# Altium schematic symbol library node.SchLib: 51 symbols (part 2 of 2)
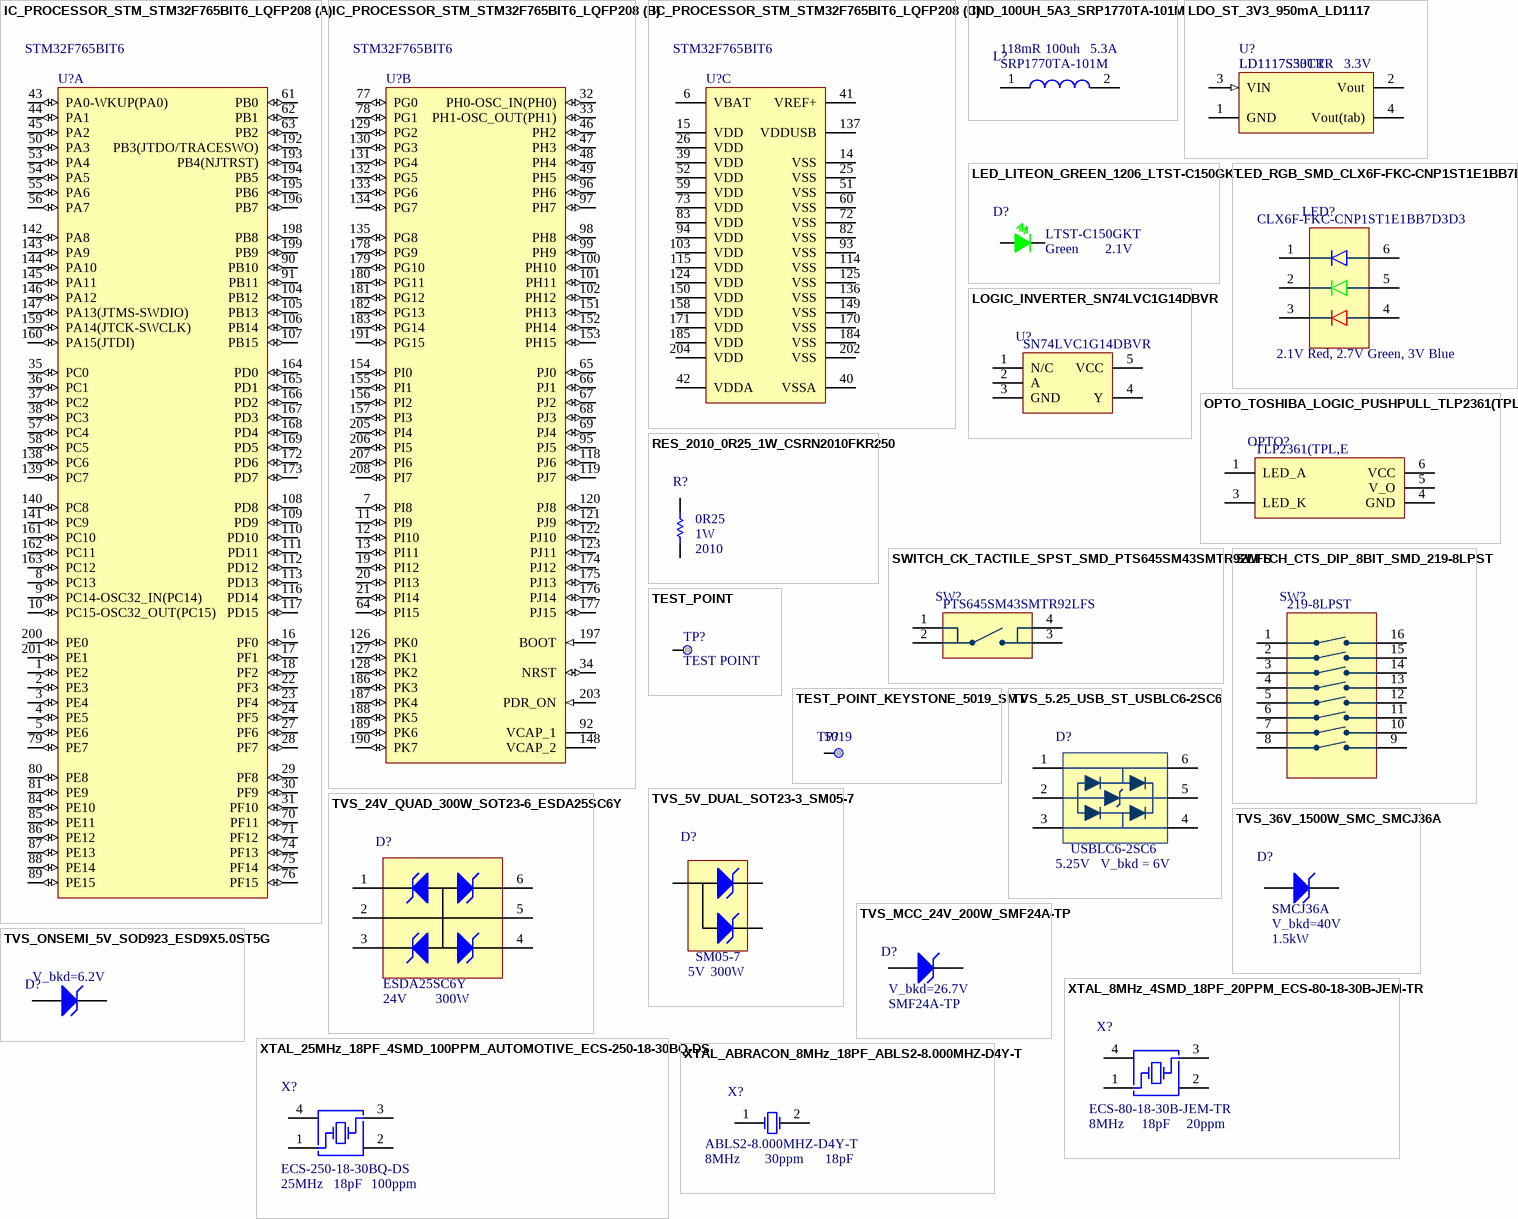
[diagram p2: symbols IC_PROCESSOR_STM_STM32F765BIT6_LQFP208 to XTAL_ABRACON_8MHz_18PF_ABLS2-8.000MHZ-D4Y-T]

## LED_LITEON_GREEN_1206_LTST-C150GKT
designator D?  Forward Voltage: 2.1V  Illumination Colour: Green  Manufacturer Part Number: LTST-C150GKT  (hidden comment: *)
LED GREEN CLEAR 1206 SMD; Manufacturer: Vishay Lite-On; Lens Colour: Clear,Colorless; Max Power Dissipation: 100mW; Luminous Intensity: 6mcd; Forward Current: 30mA; Viewing Angle: 130°; Lens Style: Clear,Diffused,Colorless,Rectangular; Dominant Wavelength: 569nm; Test Current: 10mA; Number of Elements: 1; Wavelength: 565nm; Reverse Voltage: 5V; Supplier 1: Digi-Key; Stock 1: 0; Mount: Surface Mount; Case/Package: 1206; Number of Pins: 2; Colour: Green; Case Code (Metric): 3216; Case Code (Imperial): 1206; Min Operating Temperature: -55°C; Max Operating Temperature: 85°C; Packaging: Tape and Reel; Package Quantity: 1; Power Rating: 100mW; Lens Transparency: Clear; Power Dissipation: 100mW; Number of LEDs: 1; Length: 3.2mm; Height: 1.1mm; Width: 1.6mm; Depth: 1.6mm; Radiation Hardening: No; Lead Free: Lead Free; ComponentLink1URL: https://datasheet.ciiva.com/2110/ltst-c150gkt-2110032.pdf; ComponentLink1Description: https://datasheet.ciiva.com/2110/ltst-c150gkt-2110032.pdf; ComponentLink2URL: https://datasheet.ciiva.com/12400/lite-on-ltst-c150gkt-187412-12400912.pdf; ComponentLink2Description: https://datasheet.ciiva.com/12400/lite-on-ltst-c150gkt-187412-12400912.pdf; ComponentLink3URL: https://datasheet.ciiva.com/11775/0900766b80dc0263-11775637.pdf; ComponentLink3Description: https://datasheet.ciiva.com/11775/0900766b80dc0263-11775637.pdf; ComponentLink4URL: https://datasheet.ciiva.com/4266/s-110-ltst-c150gkt-4266310.pdf; ComponentLink4Description: https://datasheet.ciiva.com/4266/s-110-ltst-c150gkt-4266310.pdf; ComponentLink5URL: https://datasheet.ciiva.com/16375/ltst-c150gkt-16375926.pdf; ComponentLink5Description: https://datasheet.ciiva.com/16375/ltst-c150gkt-16375926.pdf; ComponentLink6URL: https://datasheet.ciiva.com/15117/getdatasheetpartid-142080-15117739.pdf; ComponentLink6Description: https://datasheet.ciiva.com/15117/getdatasheetpartid-142080-15117739.pdf; Supplier Part Number 1: 160-1169-6-ND
footprint LED_1206 (Chip Capacitor, Body 3.2x1.6mm, Height 1mm, IPC Medium Density)
pins: 1, 2

## LED_RGB_SMD_CLX6F-FKC-CNP1ST1E1BB7D3D3
designator LED?  Forward Voltage: 2.1V Red, 2.7V Green, 3V Blue  Manufacturer Part Number: CLX6F-FKC-CNP1ST1E1BB7D3D3  (hidden comment: *)
LED RGB IPX8 6PLCC 3.5X3.4X2.8MM; Manufacturer: Cree; Supplier 1: Digi-Key; Stock 1: 4910; Pricing 1: 1=0.32, 10=0.301, 100=0.278, 1000=0.24861 (USD); ComponentLink1URL: http://www.mouser.com/ds/2/90/CLX6F-FKC-1352-1064258.pdf; ComponentLink1Description: http://www.mouser.com/ds/2/90/CLX6F-FKC-1352-1064258.pdf; ComponentLink2URL: http://www.cree.com/led-components/media/documents/CLX6F-FKC-1352.pdf; ComponentLink2Description: http://www.cree.com/led-components/media/documents/CLX6F-FKC-1352.pdf; Supplier Part Number 1: CLX6F-FKC-CNP1ST1E1BB7D3D3DKR-ND
footprint LED_6PLCC_RGB (Leaded Chip Carrier, 8-Leads, Body 3.55x3.50mm, Pitch 1.000mm, IPC Medium Density)
pins: 1, 2, 3, 4, 5, 6

## LOGIC_INVERTER_SN74LVC1G14DBVR
designator U?  Manufacturer Part Number: SN74LVC1G14DBVR  (hidden comment: *)
IC SCHMITT TRIG INV SOT-23-5; Manufacturer: Texas Instruments; Propagation Delay: 11ns; Max Supply Voltage: 5.5V; Min Supply Voltage: 1.65V; Output Current: 32mA; Number of Inputs: 1; Logic Function: Schmitt Trigger,Buffer,Inverter; Quiescent Current: 10uA; High Level Output Current: -32mA; Supplier 1: Digi-Key; Stock 1: 173974; Pricing 1: 1=0.43, 10=0.32, 100=0.1996, 500=0.13658, 1000=0.10506 (USD); Mount: Surface Mount; Case/Package: SOT-23; Number of Pins: 5; Weight: 0.000557oz; Contact Plating: Tin,Matte; Min Operating Temperature: -40°C; Max Operating Temperature: 125°C; Packaging: Tape and Reel; Max Output Current: 32mA; Package Quantity: 3000; Number of Elements: 1; Number of Circuits: 1; Low Level Output Current: 32mA; Turn-On Delay Time: 11ns; Termination: SMD/SMT; Number of Gates: 1; Number of Bits: 1; Radiation Hardening: No; REACH SVHC: No SVHC; Lead Free: Lead Free; ComponentLink1URL: https://datasheet.ciiva.com/28540/1772446-28540802.pdf; ComponentLink1Description: https://datasheet.ciiva.com/28540/1772446-28540802.pdf; ComponentLink2URL: https://datasheet.ciiva.com/4219/1096sn74lvc1g14-4219459.pdf; ComponentLink2Description: https://datasheet.ciiva.com/4219/1096sn74lvc1g14-4219459.pdf; ComponentLink3URL: https://datasheet.ciiva.com/1864/sn74lvc1g14-1864164.pdf; ComponentLink3Description: https://datasheet.ciiva.com/1864/sn74lvc1g14-1864164.pdf; ComponentLink4URL: https://datasheet.ciiva.com/1864/sn74lvc1g14-1864165.pdf; ComponentLink4Description: https://datasheet.ciiva.com/1864/sn74lvc1g14-1864165.pdf; ComponentLink5URL: https://datasheet.ciiva.com/1864/sn74lvc1g14-1864166.pdf; ComponentLink5Description: https://datasheet.ciiva.com/1864/sn74lvc1g14-1864166.pdf; ComponentLink6URL: https://datasheet.ciiva.com/34301/1044161-34301915.pdf; ComponentLink6Description: https://datasheet.ciiva.com/34301/1044161-34301915.pdf; ComponentLink7URL: https://datasheet.ciiva.com/15089/getdatasheetpartid-204107-15089388.pdf; ComponentLink7Description: https://datasheet.ciiva.com/15089/getdatasheetpartid-204107-15089388.pdf; ComponentLink8URL: https://datasheet.ciiva.com/7783/1768049-7783597.pdf; ComponentLink8Description: https://datasheet.ciiva.com/7783/1768049-7783597.pdf; ComponentLink9URL: https://datasheet.ciiva.com/14290/sn74lvc1g14-14290317.pdf; ComponentLink9Description: https://datasheet.ciiva.com/14290/sn74lvc1g14-14290317.pdf; ComponentLink10URL: https://datasheet.ciiva.com/16502/sn74lvc1g14-16502797.pdf; ComponentLink10Description: https://datasheet.ciiva.com/16502/sn74lvc1g14-16502797.pdf; ComponentLink11URL: https://datasheet.ciiva.com/26042/sn74lvc1g14-26042397.pdf; ComponentLink11Description: https://datasheet.ciiva.com/26042/sn74lvc1g14-26042397.pdf; ComponentLink12URL: https://datasheet.ciiva.com/7783/1768049-7783598.pdf; ComponentLink12Description: https://datasheet.ciiva.com/7783/1768049-7783598.pdf; ComponentLink13URL: https://datasheet.ciiva.com/48703/001074513-da-01-en-ic-schmitt-sn74lvc1g14dbvr-sot-23-5-tid-48703804.pdf; ComponentLink13Description: https://datasheet.ciiva.com/48703/001074513-da-01-en-ic-schmitt-sn74lvc1g14dbvr-sot-23-5-tid-48703804.pdf; Supplier Part Number 1: 296-11607-6-ND
footprint SOT-23-5L (Enhanced single channel power switches)
pins: 1 N/C, 2 A, 3 GND, 4 Y, 5 VCC

## OPTO_TOSHIBA_LOGIC_PUSHPULL_TLP2361(TPL,E
designator OPTO?  Manufacturer Part Number: TLP2361(TPL,E  (hidden comment: *)
Optocoupler Logic-Out Totem-Pole DC-IN 1-CH 5-Pin SO T/R; Manufacturer: Toshiba; Direction: Unidirectional; Max Power Dissipation: 20mW; Propagation Delay: 80ns; Number of Channels: 1; Output Current per Channel: 10mA; Fall Time: 0.003us; Forward Voltage: 1.5V; Supplier 1: Digi-Key; Stock 1: 59139; Pricing 1: 1=1.21, 10=0.983, 25=0.7564, 100=0.6806, 250=0.605, 500=0.51426, 1000=0.4235 (USD); Mount: Surface Mount; Case/Package: SO; Min Operating Temperature: -40°C; Max Operating Temperature: 125°C; Packaging: Tape and Reel; Turn-On Delay Time: 80ns; Radiation Hardening: No; ComponentLink1URL: https://toshiba.semicon-storage.com/info/docget.jsp?did=14229&prodName=TLP2361; ComponentLink1Description: https://toshiba.semicon-storage.com/info/docget.jsp?did=14229&prodName=TLP2361; ComponentLink2URL: http://www.semicon.toshiba.co.jp/info/lookup.jsp?pid=TLP2361&amp;lang=en; ComponentLink2Description: http://www.semicon.toshiba.co.jp/info/lookup.jsp?pid=TLP2361&amp;lang=en; ComponentLink3URL: http://www.semicon.toshiba.co.jp/info/docget.jsp?pid=TLP2361&lang=en&type=datasheet; ComponentLink3Description: http://www.semicon.toshiba.co.jp/info/docget.jsp?pid=TLP2361&lang=en&type=datasheet; Supplier Part Number 1: TLP2361(TPLECT-ND
footprint SO-5
pins: 1 LED_A, 3 LED_K, 4 GND, 5 V_O, 6 VCC

## RES_2010_0R25_1W_CSRN2010FKR250
designator R?  Case Code (Imperial): 2010  Resistance: 0R25  Power Rating: 1W  (hidden comment: *)
Res Thick Film 2010 0.25 Ohm 1% 1W ±250ppm/C Molded SMD Plastic T/R; Manufacturer: Stackpole Electronics; Manufacturer Part Number: CSRN2010FKR250; Temperature Coefficient: 250ppm/°C; Supplier 1: Digi-Key; Stock 1: 10883; Pricing 1: 1=0.65, 10=0.462, 25=0.3604, 50=0.305, 100=0.2402, 250=0.20328, 500=0.16632 (USD); Mount: Surface Mount; Case/Package: 2010; Case Code (Metric): 5025; Contact Plating: Tin,Matte; Min Operating Temperature: -55°C; Max Operating Temperature: 155°C; Packaging: Tape and Reel; Tolerance: 1%; Composition: Thick Film; Number of Terminations: 2; Military Standard: Not; Max Power Dissipation: 1W; Length: 0.197inch; Height: 0.03inch; Width: 0.097inch; Depth: 2.54mm; Radiation Hardening: No; Lead Free: Lead Free; ComponentLink1URL: https://datasheet.ciiva.com/26835/getdatasheetpartid-747701-26835495.pdf; ComponentLink1Description: https://datasheet.ciiva.com/26835/getdatasheetpartid-747701-26835495.pdf; Supplier Part Number 1: CSRN2010FKR250DKR-ND
footprint RES2010N (Chip Resistor, 2-Leads, Body 5.00x2.54mm, IPC Medium Density)
pins: 1, 2

## SWITCH_CK_TACTILE_SPST_SMD_PTS645SM43SMTR92LFS
designator SW?  Manufacturer Part Number: PTS645SM43SMTR92LFS  (hidden comment: *)
SWITCH TACTILE SPST-NO 0.05A 12V; Manufacturer: ITT C&K; Mechanical Life: 100000Cycles; Actuator Material: Nylon,Polyamide; Throw Configuration: SPST; Contact Resistance: 100mR; Operating Force: 160gf; Max Current Rating: 50mA; Illumination Type: Non-Illuminated,Illuminated; Switch Function: Off-Mom; Actuator Length: 0.85mm; Supplier 1: Digi-Key; Stock 1: 313002; Pricing 1: 1=0.16, 10=0.157, 25=0.1516, 50=0.1462, 100=0.1381, 250=0.12996, 500=0.12452 (USD); Mount: Surface Mount; Case/Package: SMD/SMT; Contact Plating: Silver; Contact Material: Silver; Colour: Black; Min Operating Temperature: -20°C; Max Operating Temperature: 60°C; Max Voltage Rating (DC): 12V; Packaging: Tape and Reel; Package Quantity: 1000; Current Rating: 50mA; Voltage Rating (DC): 12V; Termination: Gull Wing; Orientation: Straight; Length: 6mm; Depth: 9mm; REACH SVHC: No SVHC; Lead Free: Lead Free; ComponentLink1URL: https://datasheet.ciiva.com/29903/getdatasheetpartid-786341-29903846.pdf; ComponentLink1Description: https://datasheet.ciiva.com/29903/getdatasheetpartid-786341-29903846.pdf; ComponentLink2URL: https://datasheet.ciiva.com/14920/pts645-14920733.pdf; ComponentLink2Description: https://datasheet.ciiva.com/14920/pts645-14920733.pdf; ComponentLink3URL: https://datasheet.ciiva.com/14920/pts645-14920734.pdf; ComponentLink3Description: https://datasheet.ciiva.com/14920/pts645-14920734.pdf; ComponentLink4URL: https://datasheet.ciiva.com/14920/pts645-14920735.pdf; ComponentLink4Description: https://datasheet.ciiva.com/14920/pts645-14920735.pdf; ComponentLink5URL: https://datasheet.ciiva.com/29931/getdatasheetpartid-764615-29931183.pdf; ComponentLink5Description: https://datasheet.ciiva.com/29931/getdatasheetpartid-764615-29931183.pdf; Supplier Part Number 1: CKN9112DKR-ND
footprint SWITCH_CK_TACT_PTS645SM43SMTR92 (Surface Mounting Type Tact Switch, 4-Leads, Body 6x6mm, Height 4.5mm,Blue)
pins: 1, 2, 3, 4

## SWITCH_CTS_DIP_8BIT_SMD_219-8LPST
designator SW?  Manufacturer Part Number: 219-8LPST  (hidden comment: *)
Switch DIP ON OFF SPST 8 Flush Slide 0.1A 20VDC Gull Wing 2.54mm SMD Tube; Manufacturer: CTS; Mechanical Life: 2000Cycles; Max Voltage Rating (DC): 20V; Number of Positions: 8; Current Rating: 100mA; Contact Resistance: 25mR; Pitch: 0.1inch; Washable: Yes; Supplier 1: Digi-Key; Stock 1: 16001; Pricing 1: 1=1.05, 10=1.032, 25=0.9724, 50=0.9128, 100=0.8732, 250=0.83348, 500=0.75412, 1000=0.69458, 5000=0.56558 (USD); Mount: Surface Mount; Contact Plating: Tin,Gold; Contact Material: Copper; Min Operating Temperature: -55°C; Max Operating Temperature: 85°C; Throw Configuration: SPST; Termination: Gull Wing; Voltage Rating (DC): 20V; Life (Cycles): 2000Cycles; Packaging: Rail/Tube; Package Quantity: 25; Electrical Life: 2000Cycles; Max Current Rating: 100mA; Orientation: Straight; Length: 0.858inch; Height: 4.05mm; Terminal Pitch: 2.54mm; Depth: 9.91mm; Radiation Hardening: No; ComponentLink1URL: https://datasheet.ciiva.com/15184/getdatasheetpartid-151166-15184869.pdf; ComponentLink1Description: https://datasheet.ciiva.com/15184/getdatasheetpartid-151166-15184869.pdf; ComponentLink2URL: https://datasheet.ciiva.com/19471/859667-19471590.pdf; ComponentLink2Description: https://datasheet.ciiva.com/19471/859667-19471590.pdf; ComponentLink3URL: https://datasheet.ciiva.com/2863/219-2863549.pdf; ComponentLink3Description: https://datasheet.ciiva.com/2863/219-2863549.pdf; ComponentLink4URL: https://datasheet.ciiva.com/16316/219-16316175.pdf; ComponentLink4Description: https://datasheet.ciiva.com/16316/219-16316175.pdf; Supplier Part Number 1: CT2198LPST-ND
footprint SWITCH_DIP_CTS_8-BIT_219-8LPST
pins: 1, 2, 3, 4, 5, 6, 7, 8, 9, 10, 11, 12, 13, 14, 15, 16

## TEST_POINT
designator TP?, comment TEST POINT
footprint TP_1MM (Testpoint, Surface Mounting, Circular, Pad Diameter 1mm)
footprint TP_TH_2MM (Testpoint, Surface Mounting, Circular, Pad Diameter 1mm)
footprint TP_TH_1MM2 (Testpoint, Through-Hole, Hole Diameter 1.2MM)
pins: 1

## TEST_POINT_KEYSTONE_5019_SMT
designator TP?  Manufacturer Part Number: 5019  (hidden comment: *)
Circuit Board Hardware - PCB TEST POINT; Manufacturer: Keystone Electronics; Supplier 1: Digi-Key; Stock 1: 207442; Pricing 1: 1=0.38, 10=0.355, 25=0.3044, 50=0.2586, 100=0.2485, 250=0.22316, 500=0.21302 (USD); Mount: Surface Mount,PCB; Number of Pins: 1; Contact Plating: Silver; Material: Bronze; Contact Material: Bronze; Packaging: Tape and Reel; Package Quantity: 1; Termination: SMD/SMT; Height: 0.09inch; REACH SVHC: No SVHC; Lead Free: Lead Free; ComponentLink1URL: https://datasheet.ciiva.com/14848/m60-2p61-14848437.pdf; ComponentLink1Description: https://datasheet.ciiva.com/14848/m60-2p61-14848437.pdf; ComponentLink2URL: https://datasheet.ciiva.com/14848/m60-2p61-14848438.pdf; ComponentLink2Description: https://datasheet.ciiva.com/14848/m60-2p61-14848438.pdf; ComponentLink3URL: https://datasheet.ciiva.com/14848/m60-2p61-14848439.pdf; ComponentLink3Description: https://datasheet.ciiva.com/14848/m60-2p61-14848439.pdf; ComponentLink4URL: https://datasheet.ciiva.com/16885/70182998-16885945.pdf; ComponentLink4Description: https://datasheet.ciiva.com/16885/70182998-16885945.pdf; ComponentLink5URL: https://datasheet.ciiva.com/16318/m60-2p61-16318395.pdf; ComponentLink5Description: https://datasheet.ciiva.com/16318/m60-2p61-16318395.pdf; Supplier Part Number 1: 36-5019CT-ND
footprint TEST_POINT_KEYSTONE_5019
pins: 1

## TVS_5.25_USB_ST_USBLC6-2SC6
designator D?, comment Reverse Breakdown Voltage: V_bkd = 6V  Reverse Standoff Voltage: 5.25V  Manufacturer Part Number: USBLC6-2SC6  (hidden comment: TVS DIODE 5.25V 17V SOT23-6)
TVS DIODE 5.25VWM 17VC SOT23-6; Manufacturer: STMicroelectronics; Direction: Unidirectional,Bidirectional; Capacitance: 3.5pF; Operating Supply Voltage: 1.1V; Number of Channels: 2; Breakdown Voltage: 6V; Power Line Protection: Yes; Test Current: 1mA; Max Reverse Leakage Current: 150nA; Peak Pulse Current: 5A; Element Configuration: Dual; Data Rate: 480Mbps; Number of Elements: 1; Working Voltage: 5V; Supplier 1: Digi-Key; Stock 1: 63718; Pricing 1: 1=0.49, 10=0.419, 100=0.3131, 500=0.24602, 1000=0.1901 (USD); Mount: Surface Mount; Case/Package: SOT-23; Number of Pins: 6; Contact Plating: Tin,Matte; Min Operating Temperature: -40°C; Max Operating Temperature: 125°C; Clamping Voltage: 17V; Packaging: Tape and Reel; Package Quantity: 3000; Termination: SMD/SMT; Number of Bidirectional Channels: 2; Min Breakdown Voltage: 6V; ESD Protection: Yes; Leakage Current: 150nA; Polarity: Unidirectional,Bidirectional; Max Breakdown Voltage: 6V; Length: 3.05mm; Height: 1.3mm; Width: 1.75mm; Depth: 1.75mm; Radiation Hardening: No; REACH SVHC: No SVHC; Lead Free: Lead Free; ComponentLink1URL: https://datasheet.ciiva.com/1268/1690354-1268384.pdf; ComponentLink1Description: https://datasheet.ciiva.com/1268/1690354-1268384.pdf; ComponentLink2URL: https://datasheet.ciiva.com/4508/cd00050750-113117-4508433.pdf; ComponentLink2Description: https://datasheet.ciiva.com/4508/cd00050750-113117-4508433.pdf; ComponentLink3URL: https://datasheet.ciiva.com/16200/cd00050750-16200026.pdf; ComponentLink3Description: https://datasheet.ciiva.com/16200/cd00050750-16200026.pdf; ComponentLink4URL: https://datasheet.ciiva.com/15143/getdatasheetpartid-148465-15143789.pdf; ComponentLink4Description: https://datasheet.ciiva.com/15143/getdatasheetpartid-148465-15143789.pdf; ComponentLink5URL: https://datasheet.ciiva.com/26787/usblc6-2sc6-26787908.pdf; ComponentLink5Description: https://datasheet.ciiva.com/26787/usblc6-2sc6-26787908.pdf; ComponentLink6URL: https://datasheet.ciiva.com/41444/001184109-da-01-en-ic-esd-protecti-usblc6-2sc6-sot-23-6-stm-41444156.pdf; ComponentLink6Description: https://datasheet.ciiva.com/41444/001184109-da-01-en-ic-esd-protecti-usblc6-2sc6-sot-23-6-stm-41444156.pdf; Supplier Part Number 1: 497-5235-6-ND
footprint SOT23-6L
pins: 1, 2, 3, 4, 5, 6

## TVS_5V_DUAL_SOT23-3_SM05-7
designator D?  Manufacturer Part Number: SM05-7  Max Power Dissipation: 300W  Reverse Standoff Voltage: 5V  (hidden comment: *)
TVS DIODE 5VWM 20.6VC SOT23; Manufacturer: Diodes; Direction: Unidirectional,Bidirectional; Element Configuration: Common Anode; Capacitance: 230pF; Number of Unidirectional Channels: 2; Clamping Voltage: 20.6V; Power Line Protection: No; Polarity: Unidirectional; Breakdown Voltage: 7.3V; Leakage Current: 10uA; ESD Protection: Yes; Test Current: 1mA; Peak Pulse Current: 17A; Min Breakdown Voltage: 6.2V; Supplier 1: Digi-Key; Stock 1: 20844; Pricing 1: 1=0.46, 10=0.341, 100=0.1932, 500=0.12792, 1000=0.09808 (USD); Mount: Surface Mount; Case/Package: SOT-23; Number of Pins: 3; Contact Plating: Tin,Matte; Min Operating Temperature: -55°C; Max Operating Temperature: 150°C; Package Quantity: 3000; Packaging: Tape and Reel; Peak Pulse Power: 300W; Termination: SMD/SMT; Working Voltage: 5V; Max Reverse Leakage Current: 10uA; Length: 2.9mm; Height: 1mm; Width: 1.3mm; Depth: 1.3mm; Radiation Hardening: No; Lead Free: Lead Free; ComponentLink1URL: https://datasheet.ciiva.com/333/ds31828-333314.pdf; ComponentLink1Description: https://datasheet.ciiva.com/333/ds31828-333314.pdf; ComponentLink2URL: https://datasheet.ciiva.com/15186/getdatasheetpartid-375729-15186470.pdf; ComponentLink2Description: https://datasheet.ciiva.com/15186/getdatasheetpartid-375729-15186470.pdf; ComponentLink3URL: https://datasheet.ciiva.com/25956/ds31828-25956699.pdf; ComponentLink3Description: https://datasheet.ciiva.com/25956/ds31828-25956699.pdf; ComponentLink4URL: https://datasheet.ciiva.com/13083/ds31828-89171-13083151.pdf; ComponentLink4Description: https://datasheet.ciiva.com/13083/ds31828-89171-13083151.pdf; Supplier Part Number 1: SM05-7DIDKR-ND
footprint SOT-23
pins: 1 K1, 2 K2, 3 A

## TVS_24V_QUAD_300W_SOT23-6_ESDA25SC6Y
designator D?  Operating Supply Voltage: 24V  Peak Pulse Power: 300W  Manufacturer Part Number: ESDA25SC6Y  (hidden comment: *)
TVS DIODE 24VWM 30VC SOT23; Manufacturer: STMicroelectronics; Direction: Unidirectional; Capacitance: 60pF; Max Surge Current: 7A; Clamping Voltage: 30V; Number of Unidirectional Channels: 4; Min Breakdown Voltage: 25V; Power Line Protection: No; Leakage Current: 1uA; Peak Pulse Current: 10A; Supplier 1: Digi-Key; Stock 1: 18642; Pricing 1: 1=0.52, 10=0.419, 100=0.2855, 500=0.21414, 1000=0.16061 (USD); Mount: Surface Mount; Case/Package: SOT-23-6; Number of Pins: 6; Min Operating Temperature: -40°C; Max Operating Temperature: 150°C; Working Voltage: 24V; Packaging: Tape and Reel; Package Quantity: 1; Polarity: Unidirectional; Termination: SMD/SMT; Reverse Standoff Voltage: 24V; Length: 3mm; Height: 3mm; Depth: 1.75mm; Radiation Hardening: No; Lead Free: Lead Free; ComponentLink1URL: https://datasheet.ciiva.com/12326/dm00035423-211710-12326640.pdf; ComponentLink1Description: https://datasheet.ciiva.com/12326/dm00035423-211710-12326640.pdf; ComponentLink2URL: https://datasheet.ciiva.com/6577/dm00035423-6577883.pdf; ComponentLink2Description: https://datasheet.ciiva.com/6577/dm00035423-6577883.pdf; ComponentLink3URL: https://datasheet.ciiva.com/6577/dm00035423-6577884.pdf; ComponentLink3Description: https://datasheet.ciiva.com/6577/dm00035423-6577884.pdf; ComponentLink4URL: https://datasheet.ciiva.com/6577/dm00035423-6577885.pdf; ComponentLink4Description: https://datasheet.ciiva.com/6577/dm00035423-6577885.pdf; ComponentLink5URL: https://datasheet.ciiva.com/25958/dm00035423-25958158.pdf; ComponentLink5Description: https://datasheet.ciiva.com/25958/dm00035423-25958158.pdf; ComponentLink6URL: https://datasheet.ciiva.com/41443/001184002-da-01-en-tvs-diode-24v-300w-esda25sc6y-sot-23-stm-41443447.pdf; ComponentLink6Description: https://datasheet.ciiva.com/41443/001184002-da-01-en-tvs-diode-24v-300w-esda25sc6y-sot-23-stm-41443447.pdf; Supplier Part Number 1: 497-13421-6-ND; Breakdown Voltage: 25V
footprint SOT23-6L
pins: 1 K1, 2 A1, 3 K2, 4 K3, 5 A2, 6 K4

## TVS_36V_1500W_SMC_SMCJ36A
designator D?  Power Dissipation: 1.5kW  Manufacturer Part Number: SMCJ36A  Breakdown Voltage: V_bkd=40V  (hidden comment: *)
TVS DIODE 36VWM 58.1VC SMC; Manufacturer: Littelfuse; Direction: Unidirectional; Reverse Breakdown Voltage: 40V; Operating Supply Voltage: 36V; Max Surge Current: 25.9A; Number of Elements: 1; Clamping Voltage: 58.1V; Power Line Protection: No; Test Current: 1mA; Max Breakdown Voltage: 44.2V; Max Reverse Leakage Current: 1uA; Max Power Dissipation: 6.5W; Element Configuration: Single; Supplier 1: Digi-Key; Stock 1: 19790; Pricing 1: 1=0.61, 10=0.513, 25=0.4488, 100=0.3846, 250=0.33332, 500=0.28206, 1000=0.21795 (USD); Mount: Surface Mount; Case/Package: SMC; Number of Pins: 2; Min Operating Temperature: -65°C; Max Operating Temperature: 150°C; Package Quantity: 3000; Packaging: Tape and Reel; Number of Channels: 1; Polarity: Unidirectional; Peak Pulse Power: 1.5kW; Termination: SMD/SMT; Number of Unidirectional Channels: 1; Reverse Standoff Voltage: 36V; Min Breakdown Voltage: 40V; Peak Pulse Current: 25.9A; Leakage Current: 1uA; Voltage Rating (DC): 36V; Length: 7.11mm; Height: 2.417mm; Width: 6.22mm; Radiation Hardening: No; REACH SVHC: No SVHC; Lead Free: Lead Free; ComponentLink1URL: https://datasheet.ciiva.com/14162/smcj-eng-ds-14162005.pdf; ComponentLink1Description: https://datasheet.ciiva.com/14162/smcj-eng-ds-14162005.pdf; ComponentLink2URL: https://datasheet.ciiva.com/26943/getdatasheetpartid-214039-26943381.pdf; ComponentLink2Description: https://datasheet.ciiva.com/26943/getdatasheetpartid-214039-26943381.pdf; ComponentLink3URL: https://datasheet.ciiva.com/4510/littelfuse-tvs-diode-smcj-62645-4510614.pdf; ComponentLink3Description: https://datasheet.ciiva.com/4510/littelfuse-tvs-diode-smcj-62645-4510614.pdf; ComponentLink4URL: https://datasheet.ciiva.com/16487/littelfuse-tvs-diode-smcj-16487798.pdf; ComponentLink4Description: https://datasheet.ciiva.com/16487/littelfuse-tvs-diode-smcj-16487798.pdf; ComponentLink5URL: https://datasheet.ciiva.com/8062/littelfuse-tvs-diode-smcj-8062391.pdf; ComponentLink5Description: https://datasheet.ciiva.com/8062/littelfuse-tvs-diode-smcj-8062391.pdf; ComponentLink6URL: https://datasheet.ciiva.com/332/littelfuse-tvs-diode-smcj-datasheet-pdf-332153.pdf; ComponentLink6Description: https://datasheet.ciiva.com/332/littelfuse-tvs-diode-smcj-datasheet-pdf-332153.pdf; ComponentLink7URL: https://datasheet.ciiva.com/332/littelfuse-tvs-diode-smcj-datasheet-pdf-332154.pdf; ComponentLink7Description: https://datasheet.ciiva.com/332/littelfuse-tvs-diode-smcj-datasheet-pdf-332154.pdf; ComponentLink8URL: https://datasheet.ciiva.com/332/littelfuse-tvs-diode-smcj-datasheet-pdf-332155.pdf; ComponentLink8Description: https://datasheet.ciiva.com/332/littelfuse-tvs-diode-smcj-datasheet-pdf-332155.pdf; ComponentLink9URL: https://datasheet.ciiva.com/46385/607636-46385086.pdf; ComponentLink9Description: https://datasheet.ciiva.com/46385/607636-46385086.pdf; Supplier Part Number 1: SMCJ36ALFCT-ND
footprint DIODE_SMC (Molded Diode, 2-Leads, Body 7.10x6.20mm, IPC Medium Density)
pins: 1 K, 2 A

## TVS_MCC_24V_200W_SMF24A-TP
designator D?  Min Breakdown Voltage: V_bkd=26.7V  Manufacturer Part Number: SMF24A-TP  (hidden comment: *)
ESD Suppressor TVS 16KV 2-Pin SOD-123FL T/R; Manufacturer: MCC; Direction: Unidirectional; Number of Unidirectional Channels: 1; Reverse Standoff Voltage: 24V; Clamping Voltage: 38.9V; Peak Pulse Power: 200W; Power Line Protection: No; Leakage Current: 1uA; Element Configuration: Single; Peak Pulse Current: 5.1A; Supplier 1: Digi-Key; Stock 1: 1604; Pricing 1: 1=0.51, 10=0.362, 25=0.2976, 100=0.2379, 250=0.17304, 500=0.1406, 1000=0.10815 (USD); Mount: Surface Mount; Number of Pins: 2; Min Operating Temperature: -65°C; Max Operating Temperature: 175°C; Packaging: Tape and Reel; Working Voltage: 24V; Length: 2.85mm; Depth: 1.8mm; Radiation Hardening: No; ComponentLink1URL: http://components.arrow.com/part/dataview/49208254S300825N2022; ComponentLink1Description: http://components.arrow.com/part/dataview/49208254S300825N2022; ComponentLink2URL: http://www.mccsemi.com/up_pdf/SMF5.0-170(SOD-123FL)-F.pdf; ComponentLink2Description: http://www.mccsemi.com/up_pdf/SMF5.0-170(SOD-123FL)-F.pdf; Supplier Part Number 1: SMF24A-TPMSCT-ND
footprint SOD-123FL (SODFL, 2-Leads, Body 1.65x3.70mm, IPC Medium Density)
pins: 1 K, 2 A

## TVS_ONSEMI_5V_SOD923_ESD9X5.0ST5G
designator D?  Reverse Breakdown Voltage: V_bkd=6.2V  (hidden comment: *)
TVS DIODE 5VWM 12.3VC SOD923; Manufacturer: ON Semiconductor; Manufacturer Part Number: ESD9X5.0ST5G; Direction: Unidirectional; Number of Elements: 1; Capacitance: 65pF; Operating Supply Voltage: 5V; Max Surge Current: 8.7A; Min Breakdown Voltage: 6.2V; Clamping Voltage: 12.3V; Peak Pulse Power: 107W; Power Line Protection: No; ESD Protection: Yes; Test Current: 1mA; Max Reverse Leakage Current: 1uA; Max Power Dissipation: 150mW; Element Configuration: Single; Supplier 1: Digi-Key; Stock 1: 323635; Pricing 1: 1=0.16, 10=0.144, 100=0.0786, 500=0.04836, 1000=0.03297 (USD); Case/Package: SOD-923-2; Number of Pins: 2; Contact Plating: Tin,Matte; Min Operating Temperature: -55°C; Max Operating Temperature: 150°C; Packaging: Tape and Reel; Package Quantity: 1; Number of Unidirectional Channels: 1; Reverse Standoff Voltage: 5V; Breakdown Voltage: 6.2V; Number of Channels: 1; Polarity: Unidirectional; Termination: SMD/SMT; Working Voltage: 5V; Leakage Current: 1uA; Max Breakdown Voltage: 6.2V; Peak Pulse Current: 8.7A; Number of Lines: 1; Length: 0.8mm; Height: 0.4mm; Width: 0.65mm; Depth: 0.6mm; Radiation Hardening: No; Lead Free: Lead Free; REACH SVHC: No SVHC; Halogen Free: Halogen Free; ComponentLink1URL: https://datasheet.ciiva.com/30478/0900766b812769b5-30478676.pdf; ComponentLink1Description: https://datasheet.ciiva.com/30478/0900766b812769b5-30478676.pdf; ComponentLink2URL: https://datasheet.ciiva.com/25958/esd9x3-3st5g-d-25958458.pdf; ComponentLink2Description: https://datasheet.ciiva.com/25958/esd9x3-3st5g-d-25958458.pdf; ComponentLink3URL: https://datasheet.ciiva.com/1219/1748783-1219324.pdf; ComponentLink3Description: https://datasheet.ciiva.com/1219/1748783-1219324.pdf; ComponentLink4URL: https://datasheet.ciiva.com/3304/esd9x3-3st5g-d-3304012.pdf; ComponentLink4Description: https://datasheet.ciiva.com/3304/esd9x3-3st5g-d-3304012.pdf; ComponentLink5URL: https://datasheet.ciiva.com/339/esd9x3-3st5g-d-339709.pdf; ComponentLink5Description: https://datasheet.ciiva.com/339/esd9x3-3st5g-d-339709.pdf; ComponentLink6URL: https://datasheet.ciiva.com/16215/esd9x3-3st5g-d-16215149.pdf; ComponentLink6Description: https://datasheet.ciiva.com/16215/esd9x3-3st5g-d-16215149.pdf; ComponentLink7URL: https://datasheet.ciiva.com/339/esd9x3-3st5g-d-339710.pdf; ComponentLink7Description: https://datasheet.ciiva.com/339/esd9x3-3st5g-d-339710.pdf; ComponentLink8URL: https://datasheet.ciiva.com/339/esd9x3-3st5g-d-339711.pdf; ComponentLink8Description: https://datasheet.ciiva.com/339/esd9x3-3st5g-d-339711.pdf; Supplier Part Number 1: ESD9X5.0ST5GOSDKR-ND
footprint SOD-923-2-514AA-01_V (SOD, 2-Leads, Body 0.8x0.6mm)
pins: 1 K, 2 A

## XTAL_8MHz_4SMD_18PF_20PPM_ECS-80-18-30B-JEM-TR
designator X?  Load Capacitance: 18pF  Frequency Tolerance: 20ppm  Frequency: 8MHz  Manufacturer Part Number: ECS-80-18-30B-JEM-TR  (hidden comment: *)
8MHz ±20ppm Crystal 18pF 100 Ohm -20°C ~ 70°C  Surface Mount 4-SMD, No Lead (DFN, LCC); Manufacturer: ECS International; ESR (Equivalent Series Resistance): 100R; Frequency Stability: 50ppm; Supplier 1: Digi-Key; Stock 1: 975; Pricing 1: 1=0.78, 10=0.69, 50=0.645, 100=0.57, 500=0.54 (USD); Mount: Surface Mount; Case/Package: SMD/SMT; Min Operating Temperature: -20°C; Max Operating Temperature: 70°C; Packaging: Tape and Reel; Length: 0.197inch; Height: 0.033inch; Width: 0.126inch; ComponentLink1URL: http://www.ecsxtal.com/store/pdf/ecx_53b.pdf; ComponentLink1Description: http://www.ecsxtal.com/store/pdf/ecx_53b.pdf; ComponentLink2URL: http://www.mouser.com/ds/2/122/ecx_53b-15555.pdf; ComponentLink2Description: http://www.mouser.com/ds/2/122/ecx_53b-15555.pdf; Supplier Part Number 1: XC2105CT-ND
footprint XTAL_4SMD_5x3mm2
pins: 1 OSC1, 2 CAN, 3, 4 CAN

## XTAL_25MHz_18PF_4SMD_100PPM_AUTOMOTIVE_ECS-250-18-30BQ-DS
designator X?  Load Capacitance: 18pF  Frequency Stability: 100ppm  Frequency: 25MHz  Manufacturer Part Number: ECS-250-18-30BQ-DS  (hidden comment: *)
Crystals 25.000MHz 18pF 100ppm -40 to 125C; Manufacturer: ECS International; ESR (Equivalent Series Resistance): 30R; Frequency Tolerance: 30ppm; Supplier 1: Digi-Key; Stock 1: 1363; Pricing 1: 1=1.2, 10=1.063, 50=0.9934, 100=0.8778, 500=0.8316 (USD); Mount: Surface Mount; Case/Package: SMD/SMT; Min Operating Temperature: -40°C; Max Operating Temperature: 125°C; Packaging: Tape and Reel; Package Quantity: 1000; Termination: SMD/SMT; Tolerance: 30ppm; Length: 0.197inch; Height: 0.033inch; Width: 3.2mm; ComponentLink1URL: https://datasheet.ciiva.com/18649/ecx-53bq-18649724.pdf; ComponentLink1Description: https://datasheet.ciiva.com/18649/ecx-53bq-18649724.pdf; ComponentLink2URL: https://datasheet.ciiva.com/18649/ecx-53bq-18649725.pdf; ComponentLink2Description: https://datasheet.ciiva.com/18649/ecx-53bq-18649725.pdf; ComponentLink3URL: https://datasheet.ciiva.com/18649/ecx-53bq-18649726.pdf; ComponentLink3Description: https://datasheet.ciiva.com/18649/ecx-53bq-18649726.pdf; Supplier Part Number 1: XC2003CT-ND
footprint XTAL_4SMD_5x3mm2
pins: 1 OSC1, 2 CAN, 3, 4 CAN

## XTAL_ABRACON_8MHz_18PF_ABLS2-8.000MHZ-D4Y-T
designator X?, comment Load Capacitance: 18pF  Frequency Stability: 30ppm  Frequency: 8MHz  Manufacturer Part Number: ABLS2-8.000MHZ-D4Y-T  (hidden comment: CRYSTAL 8.0000MHZ 18PF SMD)
8MHz ±30ppm Crystal 18pF 80 Ohm -40°C ~ 85°C  Surface Mount HC49/US; Manufacturer: Abracon; ESR (Equivalent Series Resistance): 80R; Supplier 1: Digi-Key; Stock 1: 24224; Pricing 1: 1=0.33, 10=0.275, 50=0.2476, 100=0.22, 500=0.209 (USD); Mount: Surface Mount; Number of Pins: 2; Min Operating Temperature: -40°C; Max Operating Temperature: 85°C; Frequency Tolerance: 30ppm; Package Quantity: 1000; Tolerance: 30ppm; Packaging: Tape and Reel; Termination: SMD/SMT; Series Resistance: 80R; Length: 11.4mm; Height: 0.13inch; Width: 4.7mm; Depth: 4.7mm; REACH SVHC: Unknown; Lead Free: Lead Free; ComponentLink1URL: https://datasheet.ciiva.com/3174/abls2-3174136.pdf; ComponentLink1Description: https://datasheet.ciiva.com/3174/abls2-3174136.pdf; ComponentLink2URL: https://datasheet.ciiva.com/854/abls2-854378.pdf; ComponentLink2Description: https://datasheet.ciiva.com/854/abls2-854378.pdf; ComponentLink3URL: https://datasheet.ciiva.com/15116/getdatasheetpartid-719893-15116778.pdf; ComponentLink3Description: https://datasheet.ciiva.com/15116/getdatasheetpartid-719893-15116778.pdf; ComponentLink4URL: https://datasheet.ciiva.com/854/abls2-854379.pdf; ComponentLink4Description: https://datasheet.ciiva.com/854/abls2-854379.pdf; ComponentLink5URL: https://datasheet.ciiva.com/7998/1749648-7998491.pdf; ComponentLink5Description: https://datasheet.ciiva.com/7998/1749648-7998491.pdf; ComponentLink6URL: https://datasheet.ciiva.com/854/abls2-854380.pdf; ComponentLink6Description: https://datasheet.ciiva.com/854/abls2-854380.pdf; ComponentLink7URL: https://datasheet.ciiva.com/28508/1749648-28508412.pdf; ComponentLink7Description: https://datasheet.ciiva.com/28508/1749648-28508412.pdf; ComponentLink8URL: https://datasheet.ciiva.com/16292/abls2-16292557.pdf; ComponentLink8Description: https://datasheet.ciiva.com/16292/abls2-16292557.pdf; Supplier Part Number 1: 535-9864-6-ND
footprint XTAL_HC-49/US
pins: 1 OSC1, 2 OSC2